# Altium footprint library Capacitor_Ceramic_M6332_I2512.PcbLib: 1 footprints
Each footprint in its own frame and in the unit in brackets; x right, y up, seen from the top. Pads: shape width x height; smd on the part's side, far side on the other; paste and mask are expansions set on the pad; w line width, h text height; cw(c..) or ccw(c..) is an arc to the next point about the centre after c.
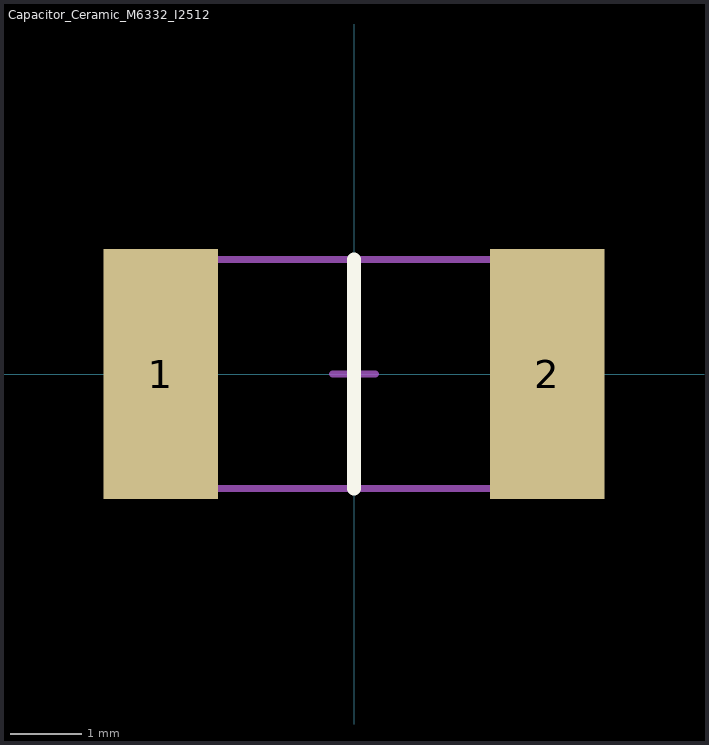
[diagram p0: the footprint, top view; thin cyan lines are the x and y axes]

## Capacitor_Ceramic_M6332_I2512 [mm] "Capacitor_Ceramic_M6332_I2512"
height 0.6
pads (2):
  rect 1.6x3.5 smd mask+0.05: 1(-2.7,0) 2(2.7,0)
Top Overlay:
  lines w0.2: 0,-1.6 0,1.6
Top Assembly:
  lines w0.1: -3.15,-1.6 -3.15,1.6 3.15,1.6 3.15,-1.6 -3.15,-1.6
Top Designator:
  text ".Designator" at -2.4,-2.675 h1.2
Top Component Center:
  lines w0.1: -0.3,0 0.3,0 ; 0,-0.3 0,0.3
3D body "Capacitor_Ceramic_M6332_I2512.step": height 3.21, standoff -0.01, extent -3.47,-1.613 3.47,1.613